# Altium footprint library SOT SMD.PcbLib: 21 footprints (part 1 of 2)
Each footprint in its own frame and in the unit in brackets; x right, y up, seen from the top. Pads: shape width x height; smd on the part's side, far side on the other; paste and mask are expansions set on the pad; w line width, h text height; cw(c..) or ccw(c..) is an arc to the next point about the centre after c.
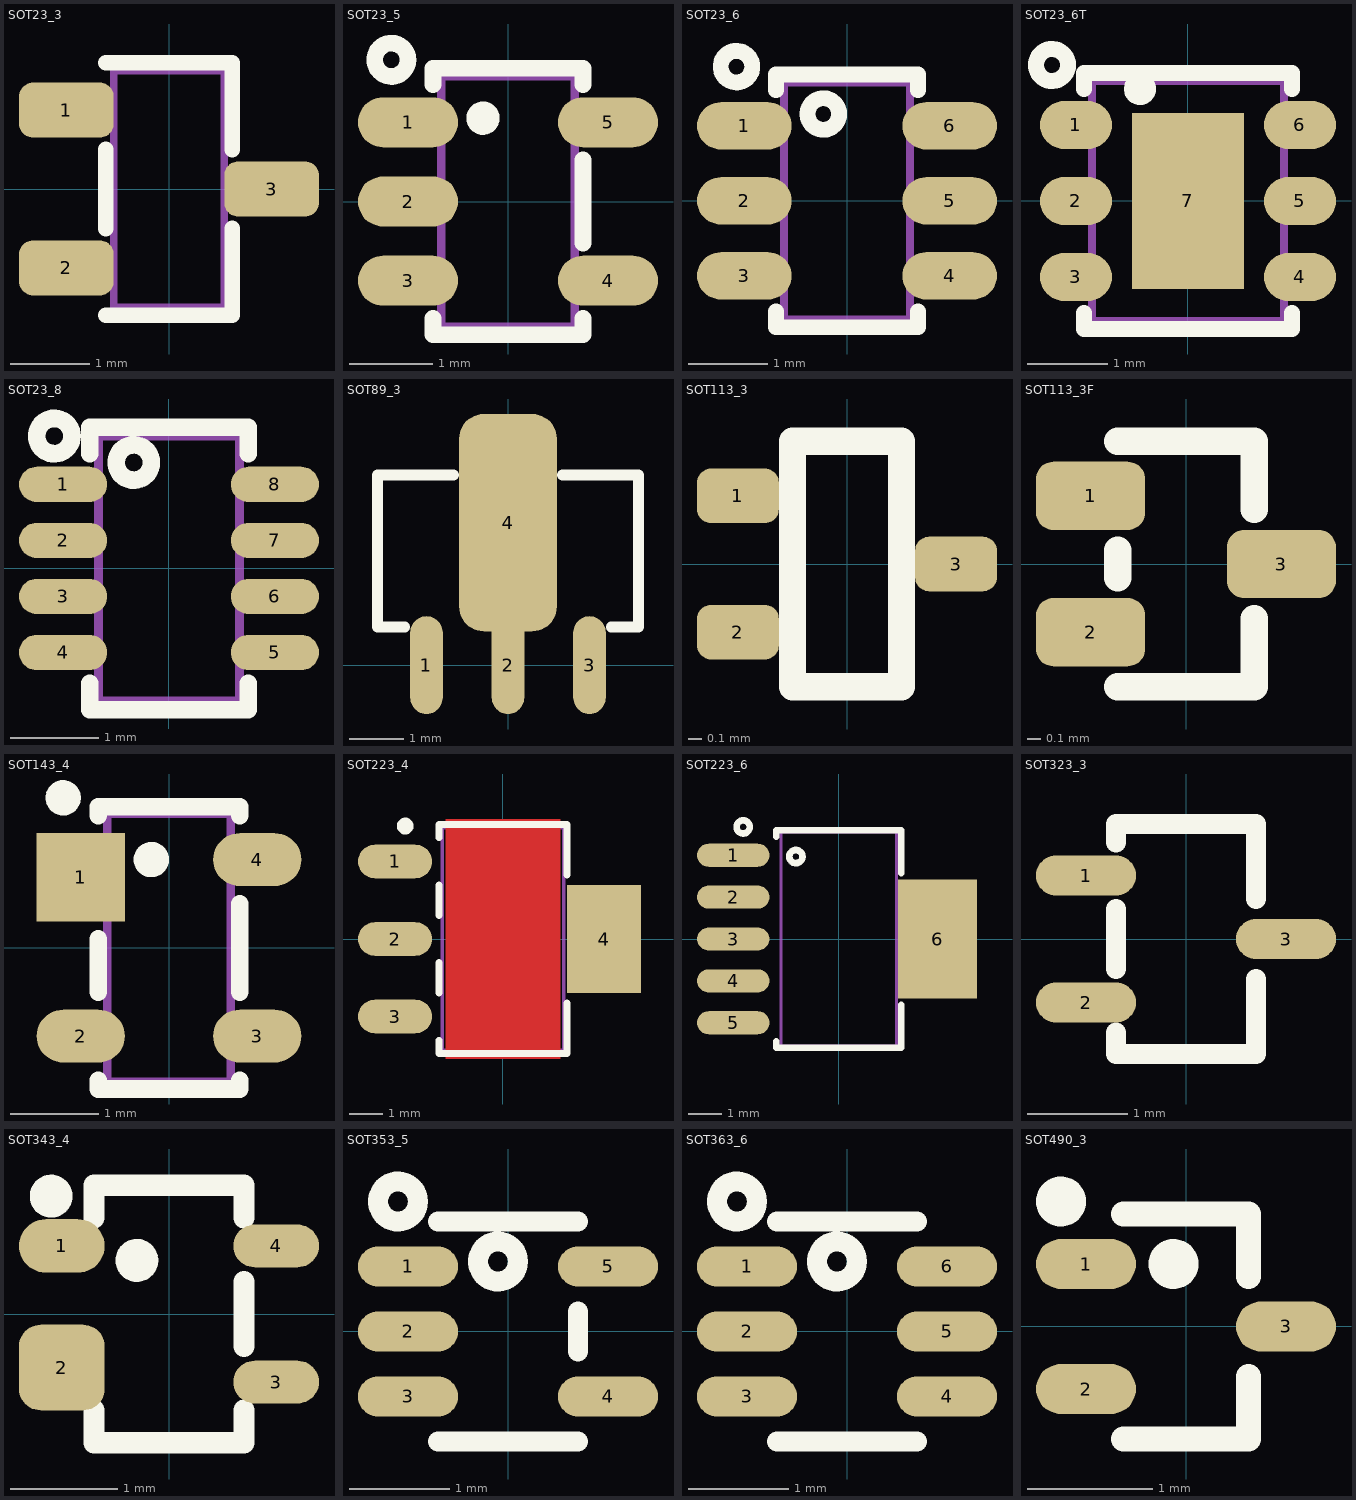
[diagram p0: the footprints below, top view; thin cyan lines are the x and y axes]

## SOT23_3 [mm] "SOT-23, Micro3, MO-178, TO-236AB, MO-193C, SuperSOT3, SC-59, 1.9mm pitch 3X1.5mm body"
height 7.62
pads (3):
  rrect50% 1.2x0.7 smd mask+0.1: 1(-1.3,1) 2(-1.3,-1) 3(1.3,0)
Top Overlay:
  lines w0.2: -0.8,-1.6 0.8,-1.6 0.8,-0.5 ; -0.8,-0.5 -0.8,0.5 ; -0.8,1.6 0.8,1.6 0.8,0.5
Mechanical 13:
  lines w0.1: -0.7,-1.5 -0.7,1.5 0.7,1.5 0.7,-1.5 -0.7,-1.5
3D body "User Library-SOT23-2.STEP": height 1.08, standoff 0, extent -1.32,-1.5 1.32,1.5

## SOT23_5 [mm] "SOT-23-5, SOT25, SOT-25, DBV(R-PDSO-G5), TSOT23-5, SC-74A, SOT23-5, S5-T (LINEAR), MO-178AA, MO-193AB(JEDEC), MF05A (NS), TSOP-5(ON), UJ-5 (AD), 0.95mm pitch 3X1.5mm"
height 7.62
pads (5):
  oval 1.2x0.6 smd: 1(-1.2,0.95) 2(-1.2,0) 3(-1.2,-0.95) 4(1.2,-0.95) 5(1.2,0.95)
Top Overlay:
  circle w0.2: c-1.4,1.7 r0.2
  circle w0.2: c-0.3,1 r0.1
  lines w0.2: -0.9,-1.4 -0.9,-1.6 0.9,-1.6 0.9,-1.4 ; -0.9,1.4 -0.9,1.6 0.9,1.6 0.9,1.4 ; 0.9,-0.5 0.9,0.5
Mechanical 13:
  lines w0.1: -0.8,-1.5 0.8,-1.5 0.8,1.5 -0.8,1.5 -0.8,-1.5
3D body "CircuitWorks-SOT-23-5.step": height 1.15, standoff 0.05, extent -1.25,-1.5 1.25,1.5

## SOT23_6 [mm] "SOT-23-6, DDC, DBV, MICRO6, SOT-26, SOT457, SuperSOT6, TSOP-6, HMC313, MO-178AB, MO-193AA, TSOT"
height 0.8
pads (6):
  oval 1.2x0.6 smd: 1(-1.3,0.95) 2(-1.3,0) 3(-1.3,-0.95) 4(1.3,-0.95) 5(1.3,0) 6(1.3,0.95)
Top Overlay:
  circle w0.2: c-0.3,1.1 r0.2
  circle w0.2: c-1.4,1.7 r0.2
  lines w0.2: -0.9,-1.4 -0.9,-1.6 0.9,-1.6 0.9,-1.4 ; -0.9,1.4 -0.9,1.6 0.9,1.6 0.9,1.4
Mechanical 13:
  lines w0.1: -0.8,-1.5 -0.8,1.5 0.8,1.5 0.8,-1.5 -0.8,-1.5
3D body "User Library-SOT23-6.step": height 1.3, standoff 0, extent -1.5,-1.5 1.5,1.5

## SOT23_6T [mm] "SuperSOT6, TSOT6, DSO95_6T_300X150"
height 0.8
pads (7):
  oval 0.9x0.6 smd: 1(-1.4,0.95) 2(-1.4,0) 3(-1.4,-0.95) 4(1.4,-0.95) 5(1.4,0) 6(1.4,0.95)
  rect 1.4x2.2 smd: 7(0,0)
Top Overlay:
  circle w0.2: c-1.7,1.7 r0.2
  circle w0.2: c-0.6,1.4 r0.1
  lines w0.2: -1.3,-1.4 -1.3,-1.6 1.3,-1.6 1.3,-1.4 ; -1.3,1.4 -1.3,1.6 1.3,1.6 1.3,1.4
Mechanical 13:
  lines w0.1: -1.2,-1.5 1.2,-1.5 1.2,1.5 -1.2,1.5 -1.2,-1.5
3D body "User Library-SOT23-6.step": height 1.3, standoff 0, extent -1.5,-1.5 1.5,1.5

## SOT23_8 [mm] "SOT23, 8-Leads, DDF, 2.90x2.80mm, Pitch 0.65mm, DSO65_8_300X150"
height 1.5
pads (8):
  oval 1x0.4 smd mask+0.075: 1(-1.2,0.953) 2(-1.2,0.318) 3(-1.2,-0.318) 4(-1.2,-0.953) 5(1.2,-0.953) 6(1.2,-0.318) 7(1.2,0.318) 8(1.2,0.953)
Top Overlay:
  circle w0.2: c-0.4,1.2 r0.2
  circle w0.2: c-1.3,1.5 r0.2
  lines w0.2: -0.9,-1.3 -0.9,-1.6 0.9,-1.6 0.9,-1.3 ; -0.9,1.3 -0.9,1.6 0.9,1.6 0.9,1.3
Mechanical 13:
  lines w0.1: -0.8,-1.5 -0.8,1.5 0.8,1.5 0.8,-1.5 -0.8,-1.5
3D body "User Library-TSOT-23-8.STEP": height 1, standoff 0, extent -1.4,-1.45 1.4,1.45

## SOT89_3 [mm] "SOT89, SOT-89, SBF-4089, SOT89A, GALI, SC-62, DF782, TO-243AA(JEDEC)"
pads (4):
  oval 0.6x1.8 smd: 1(-1.5,0) 2(0,0) 3(1.5,0)
  rrect50% 1.8x4 smd: 4(0,2.621)
Top Overlay:
  lines w0.2: -1.9,0.7 -2.4,0.7 -2.4,3.5 -1,3.5 ; 1,3.5 2.4,3.5 2.4,0.7 1.9,0.7
3D body "SW3dPS-SOT89.STEP": height 1.59, standoff -0.02, extent -2.3,-0.1 2.3,4.15

## SOT113_3 [mm] "SOT-113, BAT64, SC-75, SOT-416, SOT523, DSO90_3_1.4X0.8"
pads (3):
  rrect50% 0.6x0.4 smd: 1(-0.8,0.5) 2(-0.8,-0.5) 3(0.8,0)
Top Overlay:
  lines w0.2: -0.4,-0.9 -0.4,0.9 0.4,0.9 0.4,-0.9 -0.4,-0.9
3D body "SOT523.STEP": height 0.9, standoff 0, extent -0.85,-0.825 0.85,0.825

## SOT113_3F [mm] "SOT523F, 3 Lead SC89; EIAJ-SC89, 1.4X0.8"
pads (3):
  rrect50% 0.8x0.5 smd: 1(-0.7,0.5) 2(-0.7,-0.5) 3(0.7,0)
Top Overlay:
  lines w0.2: -0.5,-0.9 0.5,-0.9 0.5,-0.4 ; -0.5,-0.1 -0.5,0.1 ; -0.5,0.9 0.5,0.9 0.5,0.4
3D body "SOT523F.STEP": height 0.8, standoff 0, extent -0.85,-0.849 0.85,0.849

## SOT143_4 [mm] "SC-74A , SOT143, TO-253A, DSO190_4_300X150, LAT-3/MMM168, MW-4"
height 1.2
pads (4):
  rect 1x1 smd: 1(-1,0.8)
  oval 1x0.6 smd: 2(-1,-1) 3(1,-1) 4(1,1)
Top Overlay:
  circle w0.2: c-1.2,1.7 r0.1
  circle w0.2: c-0.2,1 r0.1
  lines w0.2: -0.8,-1.5 -0.8,-1.6 0.8,-1.6 0.8,-1.5 ; -0.8,-0.5 -0.8,0.1 ; -0.8,1.5 -0.8,1.6 0.8,1.6 0.8,1.5 ; 0.8,-0.5 0.8,0.5
Mechanical 13:
  lines w0.1: -0.7,-1.52 0.7,-1.52 0.7,1.52 -0.7,1.52 -0.7,-1.52
3D body "User Library-sot143.step": height 1, standoff 0, extent -1.21,-1.46 1.21,1.46

## SOT223_4 [mm] "SOT223, 4-Leads, Body 6.5x3.5mm, Pitch 2.30mm"
height 1.8
pads (4):
  oval 2.2x1 smd: 1(-3.2,2.3) 2(-3.2,0) 3(-3.2,-2.3)
  rect 2.2x3.2 smd: 4(3,0)
Top Layer:
  pour cut-out: -1.7,3.556 1.7,3.556 1.7,-3.556 -1.7,-3.556
Top Overlay:
  circle w0.25: c-2.9,3.35 r0.125
  lines w0.2: -1.9,-3 -1.9,-3.4 1.9,-3.4 1.9,-1.9 ; -1.9,-1.6 -1.9,-0.7 ; -1.9,0.7 -1.9,1.6 ; -1.9,3 -1.9,3.4 1.9,3.4 1.9,1.9
Mechanical 13:
  lines w0.1: -1.8,-3.3 1.8,-3.3 1.8,3.3 -1.8,3.3 -1.8,-3.3
3D body "User Library-SOT223-3.step": height 1.7, standoff 0, extent -3.5,-3.25 3.5,3.25

## SOT223_6 [mm] "SOT223-6, TO-261, pitch: 1.27mm, DSO127_51_650X350"
pads (6):
  oval 2.2x0.7 smd: 1(-3.2,2.54) 2(-3.2,1.27) 3(-3.2,0) 4(-3.2,-1.27) 5(-3.2,-2.54)
  rect 2.4x3.6 smd: 6(3,0)
Top Overlay:
  circle w0.2: c-1.3,2.5 r0.2
  circle w0.2: c-2.9,3.4 r0.2
  lines w0.2: -1.9,-3.1 -1.9,-3.3 1.9,-3.3 1.9,-2 ; -1.9,3.1 -1.9,3.3 1.9,3.3 1.9,2
Mechanical 13:
  lines w0.1: -1.75,-3.25 1.75,-3.25 1.75,3.25 -1.75,3.25 -1.75,-3.25
3D body "User Library-SOT-223-6.step": height 1.8, standoff 0, extent -3.63,-3.275 3.63,3.275

## SOT323_3 [mm] "SOT323, SC-70/SC70-3L, DCK, MO-203, 2X1.25mm"
pads (3):
  oval 1x0.4 smd: 1(-1,0.635) 2(-1,-0.635) 3(1,0)
Top Overlay:
  lines w0.2: -0.7,-0.935 -0.7,-1.15 0.7,-1.15 0.7,-0.4 ; -0.7,-0.3 -0.7,0.3 ; -0.7,0.965 -0.7,1.15 0.7,1.15 0.7,0.4
3D body "User Library-sc70-3.step": height 1, standoff 0, extent -1.15,-1.05 1.15,1.05

## SOT343_4 [mm] "SOT343/SOT-343, SC70/SC-70 4"
pads (4):
  oval 0.8x0.5 smd: 1(-1,0.635)
  rrect50% 0.8x0.8 smd: 2(-1,-0.5)
  oval 0.8x0.4 smd: 3(1,-0.635) 4(1,0.635)
Top Overlay:
  circle w0.2: c-0.3,0.5 r0.1
  circle w0.2: c-1.1,1.1 r0.1
  lines w0.2: -0.7,-0.9 -0.7,-1.2 0.7,-1.2 0.7,-0.9 ; -0.7,0.9 -0.7,1.2 0.7,1.2 0.7,0.9 ; 0.7,-0.3 0.7,0.3 ; -1.1,1 -1.1,1
3D body "User Library-SOT343-1.step": height 1, standoff 0, extent -1.1,-1.1 1.1,1.1

## SOT353_5 [mm] "SC-88A, SC70-5, SOT-353, DCK (TI), 0.65mm pitch 2X1.3mm body"
height 1
pads (5):
  oval 1x0.4 smd mask+0.075: 1(-1,0.65) 2(-1,0) 3(-1,-0.65) 4(1,-0.65) 5(1,0.65)
Top Overlay:
  circle w0.2: c-1.1,1.3 r0.2
  circle w0.2: c-0.1,0.7 r0.2
  lines w0.2: -0.7,-1.1 0.7,-1.1 ; -0.7,1.1 0.7,1.1 ; 0.7,-0.2 0.7,0.2
3D body "User Library-sot353.step": height 1, standoff 0, extent -1.15,-1.05 1.15,1.05

## SOT363_6 [mm] "SOT-363, SC-70_6, BFS483, SC-88, MO-203AB, DSO65_6_200X130"
height 1
pads (6):
  oval 1x0.4 smd mask+0.075: 1(-1,0.65) 2(-1,0) 3(-1,-0.65) 4(1,-0.65) 5(1,0) 6(1,0.65)
Top Overlay:
  circle w0.2: c-1.1,1.3 r0.2
  circle w0.2: c-0.1,0.7 r0.2
  lines w0.2: -0.7,-1.1 0.7,-1.1 ; -0.7,1.1 0.7,1.1
3D body "User Library-sot363.step": height 1, standoff 0, extent -1.15,-1.05 1.15,1.05

## SOT490_3 [mm] "SOT490 SC-89, SOT523F, 3 LEAD, Body 1.6x0.8mm, Pitch 1.0mm, SSM, EMT3F"
height 0.6
pads (3):
  oval 0.8x0.4 smd mask+0.075: 1(-0.8,0.5) 2(-0.8,-0.5) 3(0.8,0)
Top Overlay:
  circle w0.2: c-0.1,0.5 r0.1
  circle w0.2: c-1,1 r0.1
  lines w0.2: -0.5,-0.9 0.5,-0.9 0.5,-0.4 ; -0.5,0.9 0.5,0.9 0.5,0.4
3D body "SOT490_SC-89.step": height 0.78, standoff 0, extent -0.85,-0.85 0.85,0.85